# Altium schematic symbol library SCH - MCU - STM32 - ST MICROELECTRONICS STM32F103VBIX UFBGA100.SchLib: 1 symbol
Pins are listed as number, name and electrical type; pins without a type are passive.

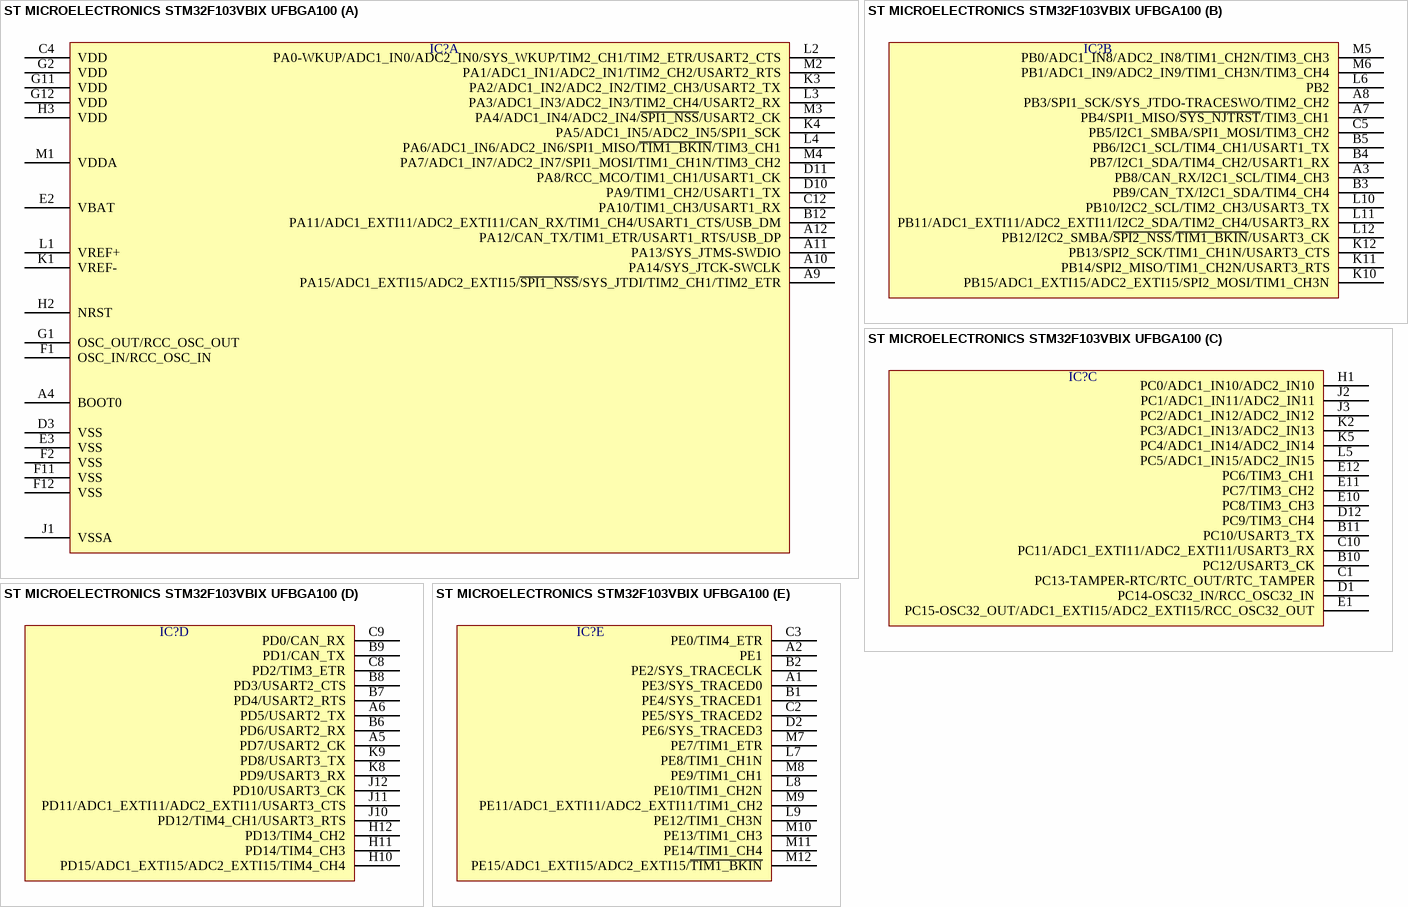
[diagram p0: symbol ST MICROELECTRONICS STM32F103VBIX UFBGA100]

## ST MICROELECTRONICS STM32F103VBIX UFBGA100
designator IC?  (value not drawn)
part A pins: A4 BOOT0, A9 PA15/ADC1_EXTI15/ADC2_EXTI15/~{SPI1_NSS}/SYS_JTDI/TIM2_CH1/TIM2_ETR, A10 PA14/SYS_JTCK-SWCLK, A11 PA13/SYS_JTMS-SWDIO, A12 PA12/CAN_TX/TIM1_ETR/USART1_RTS/USB_DP, B12 PA11/ADC1_EXTI11/ADC2_EXTI11/CAN_RX/TIM1_CH4/USART1_CTS/USB_DM, C4 VDD, C12 PA10/TIM1_CH3/USART1_RX, D3 VSS, D10 PA9/TIM1_CH2/USART1_TX, D11 PA8/RCC_MCO/TIM1_CH1/USART1_CK, E2 VBAT, E3 VSS, F1 OSC_IN/RCC_OSC_IN, F2 VSS, F11 VSS, F12 VSS, G1 OSC_OUT/RCC_OSC_OUT, G2 VDD, G11 VDD, G12 VDD, H2 NRST, H3 VDD, J1 VSSA, K1 VREF-, K3 PA2/ADC1_IN2/ADC2_IN2/TIM2_CH3/USART2_TX, K4 PA5/ADC1_IN5/ADC2_IN5/SPI1_SCK, L1 VREF+, L2 PA0-WKUP/ADC1_IN0/ADC2_IN0/SYS_WKUP/TIM2_CH1/TIM2_ETR/USART2_CTS, L3 PA3/ADC1_IN3/ADC2_IN3/TIM2_CH4/USART2_RX, L4 PA6/ADC1_IN6/ADC2_IN6/SPI1_MISO/~{TIM1_BKIN}/TIM3_CH1, M1 VDDA, M2 PA1/ADC1_IN1/ADC2_IN1/TIM2_CH2/USART2_RTS, M3 PA4/ADC1_IN4/ADC2_IN4/~{SPI1_NSS}/USART2_CK, M4 PA7/ADC1_IN7/ADC2_IN7/SPI1_MOSI/TIM1_CH1N/TIM3_CH2
part B pins: A3 PB8/CAN_RX/I2C1_SCL/TIM4_CH3, A7 PB4/SPI1_MISO/~{SYS_NJTRST}/TIM3_CH1, A8 PB3/SPI1_SCK/SYS_JTDO-TRACESWO/TIM2_CH2, B3 PB9/CAN_TX/I2C1_SDA/TIM4_CH4, B4 PB7/I2C1_SDA/TIM4_CH2/USART1_RX, B5 PB6/I2C1_SCL/TIM4_CH1/USART1_TX, C5 PB5/I2C1_SMBA/SPI1_MOSI/TIM3_CH2, K10 PB15/ADC1_EXTI15/ADC2_EXTI15/SPI2_MOSI/TIM1_CH3N, K11 PB14/SPI2_MISO/TIM1_CH2N/USART3_RTS, K12 PB13/SPI2_SCK/TIM1_CH1N/USART3_CTS, L6 PB2, L10 PB10/I2C2_SCL/TIM2_CH3/USART3_TX, L11 PB11/ADC1_EXTI11/ADC2_EXTI11/I2C2_SDA/TIM2_CH4/USART3_RX, L12 PB12/I2C2_SMBA/~{SPI2_NSS}/~{TIM1_BKIN}/USART3_CK, M5 PB0/ADC1_IN8/ADC2_IN8/TIM1_CH2N/TIM3_CH3, M6 PB1/ADC1_IN9/ADC2_IN9/TIM1_CH3N/TIM3_CH4
part C pins: B10 PC12/USART3_CK, B11 PC10/USART3_TX, C1 PC13-TAMPER-RTC/RTC_OUT/RTC_TAMPER, C10 PC11/ADC1_EXTI11/ADC2_EXTI11/USART3_RX, D1 PC14-OSC32_IN/RCC_OSC32_IN, D12 PC9/TIM3_CH4, E1 PC15-OSC32_OUT/ADC1_EXTI15/ADC2_EXTI15/RCC_OSC32_OUT, E10 PC8/TIM3_CH3, E11 PC7/TIM3_CH2, E12 PC6/TIM3_CH1, H1 PC0/ADC1_IN10/ADC2_IN10, J2 PC1/ADC1_IN11/ADC2_IN11, J3 PC2/ADC1_IN12/ADC2_IN12, K2 PC3/ADC1_IN13/ADC2_IN13, K5 PC4/ADC1_IN14/ADC2_IN14, L5 PC5/ADC1_IN15/ADC2_IN15
part D pins: A5 PD7/USART2_CK, A6 PD5/USART2_TX, B6 PD6/USART2_RX, B7 PD4/USART2_RTS, B8 PD3/USART2_CTS, B9 PD1/CAN_TX, C8 PD2/TIM3_ETR, C9 PD0/CAN_RX, H10 PD15/ADC1_EXTI15/ADC2_EXTI15/TIM4_CH4, H11 PD14/TIM4_CH3, H12 PD13/TIM4_CH2, J10 PD12/TIM4_CH1/USART3_RTS, J11 PD11/ADC1_EXTI11/ADC2_EXTI11/USART3_CTS, J12 PD10/USART3_CK, K8 PD9/USART3_RX, K9 PD8/USART3_TX
part E pins: A1 PE3/SYS_TRACED0, A2 PE1, B1 PE4/SYS_TRACED1, B2 PE2/SYS_TRACECLK, C2 PE5/SYS_TRACED2, C3 PE0/TIM4_ETR, D2 PE6/SYS_TRACED3, L7 PE8/TIM1_CH1N, L8 PE10/TIM1_CH2N, L9 PE12/TIM1_CH3N, M7 PE7/TIM1_ETR, M8 PE9/TIM1_CH1, M9 PE11/ADC1_EXTI11/ADC2_EXTI11/TIM1_CH2, M10 PE13/TIM1_CH3, M11 PE14/TIM1_CH4, M12 PE15/ADC1_EXTI15/ADC2_EXTI15/~{TIM1_BKIN}